# Altium integrated library Brightness_Sensor.IntLib: 9 symbols
Pins are listed as number, name and electrical type; pins without a type are passive.

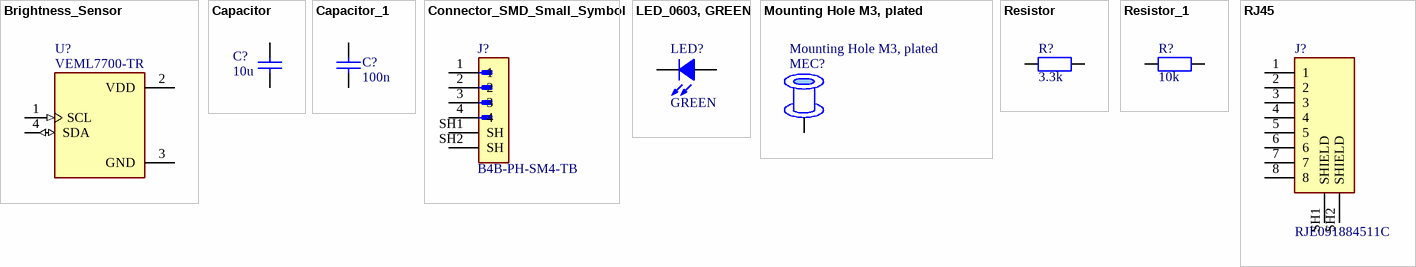
[diagram p0: symbols Brightness_Sensor to RJ45]

## Brightness_Sensor
designator U?, comment VEML7700-TR
SENSOR OPT 545NMAMB 4 SMD J LEAD.; ComponentLink1Description: Supplier; ComponentLink1URL: https://www.digikey.ch/en/products/detail/vishay-semiconductor-opto-division/VEML7700-TR/5820243
footprint Brightness_Sensor (VEML7700-TR, SENSOR OPT 545NMAMB 4 SMD J LEAD.)
pins: 1 SCL (in), 2 VDD (power), 3 GND (power), 4 SDA (io)

## Capacitor
designator C?, comment 10u
0603
footprint 0603_CAPACITOR
pins: 1, 2

## Capacitor_1
designator C?, comment 100n
0603
footprint 0603_CAPACITOR
pins: 1, 2

## Connector_SMD_Small_Symbol
designator J?, comment B4B-PH-SM4-TB
CONN HEADER SMD 4POS 2MM.; ComponentLink1Description: Supplier; ComponentLink1URL: https://www.digikey.ch/en/products/detail/jst-sales-america-inc/B4B-PH-SM4-TB/926643
footprint Connector_SMD (B4B-PH-SM4-TB, CONN HEADER SMD 4POS 2MM.)
pins: 1, 2, 3, 4, SH1 SH, SH2 SH

## LED_0603, GREEN
designator LED?, comment GREEN
LED 0603, Green, 3.2 V, 20 mA, 430 mcd
footprint LED_0603, GREEN (LED 0603, Green, 3.2 V, 20 mA, 430 mcd)
pins: A, K

## Mounting Hole M3, plated
designator MEC?
Mounting Hole for M3 Screw, plated to connect signal
footprint Mounting Hole M3, plated (Mounting Hole for M3 Screw, plated to connect signal)
pins: 1

## Resistor
designator R?, comment 3.3k
0603
footprint 0603_Resistor
pins: 1, 2

## Resistor_1
designator R?, comment 10k
0603
footprint 0603_Resistor
pins: 1, 2

## RJ45
designator J?, comment RJE091884511C
Jack Modular Connector 8p8c (RJ45, Ethernet) 90Â° Angle (Right) Shielded Cat3.; MF: Amphenol ICC (Commercial Products); SnapEDA_Link: https://www.snapeda.com/parts/RJE091884511C/Amphenol/view-part/?ref=snap; Package: None; System: Connector; MP: RJE091884511C; Check_prices: https://www.snapeda.com/parts/RJE091884511C/Amphenol/view-part/?ref=eda; Parameter 1: *
footprint RJ45 (RJE091884511C, Jack Modular Connector 8p8c (RJ45, Ethernet) 90Â° Angle (Right) Shielded Cat3.)
pins: 1, 2, 3, 4, 5, 6, 7, 8, SH1 SHIELD, SH2 SHIELD